# Altium footprint library project.PcbLib: 22 footprints (part 2 of 2)
Each footprint in its own frame and in the unit in brackets; x right, y up, seen from the top. Pads: shape width x height; smd on the part's side, far side on the other; paste and mask are expansions set on the pad; w line width, h text height; cw(c..) or ccw(c..) is an arc to the next point about the centre after c.
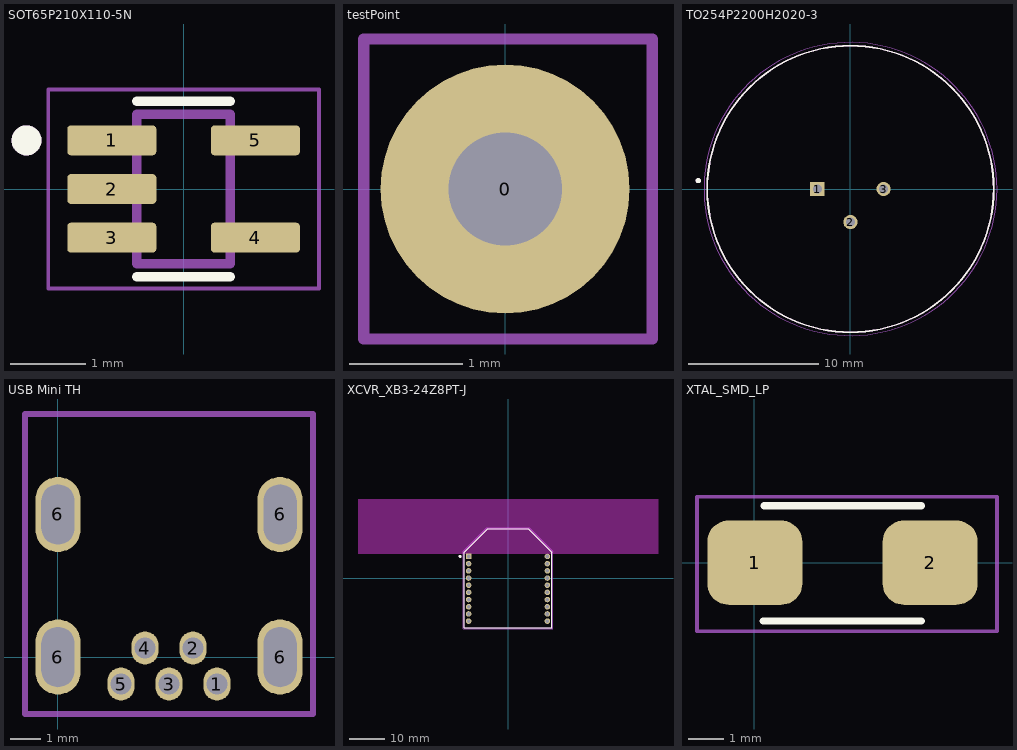
[diagram p1: the footprints below, top view; thin cyan lines are the x and y axes]

## SOT65P210X110-5N [mm]
pads (5):
  rrect25% 1.19x0.4 smd: 1(-0.96,0.65) 2(-0.96,0) 3(-0.96,-0.65) 4(0.96,-0.65) 5(0.96,0.65)
Top Overlay:
  circle w0.2: c-2.1,0.65 r0.1
  lines w0.127: -0.625,-1.17 0.625,-1.17 ; -0.625,1.17 0.625,1.17
Mechanical 13:
  circle w0.2: c-2.1,0.65 r0.1
  lines w0.127: -0.625,-1 -0.625,1 0.625,1 0.625,-1 -0.625,-1
Mechanical 15:
  lines w0.05: -1.81,-1.33 -1.81,1.33 1.81,1.33 1.81,-1.33 -1.81,-1.33

## testPoint [mm]
pads (1):
  round 2.2 hole 1: 0(0,0)
Mechanical 13:
  lines w0.1: -1.25,-1.325 -1.25,1.325 1.3,1.325 1.3,-1.325 -1.25,-1.325
  text ".Designator" at -1.075,-0.525 h0.4
3D body "User Library-TEST POINT.STEP": height 4.36, standoff -2.57, extent -1.27,-1.315 1.27,1.318

## TO254P2200H2020-3 [mm]
pads (3):
  rect 1.1x1.1 hole 0.7: 1(-2.54,0)
  round 1.1 hole 0.7: 2(0,-2.54) 3(2.54,0)
Top Overlay:
  circle w0.127: c0,0 r11
  circle w0.2: c-11.684,0.643 r0.1
Mechanical 13:
  circle w0.127: c0,0 r11
  circle w0.2: c-11.684,0.643 r0.1
Mechanical 15:
  circle w0.05: c0,0 r11.25

## USB Mini TH [mm]
pads (9):
  oval 0.9x1.1 hole 0.7: 1(5.3,-0.9) 2(4.5,0.3) 3(3.7,-0.9) 4(2.9,0.3) 5(2.1,-0.9)
  oval 1.5x2.5 hole 1.1 slot 2 at 90 deg: 6(0,0) 6(0,4.75) 6(7.4,0) 6(7.4,4.75)
Mechanical 13:
  lines w0.2: -1.1,-1.9 -1.1,8.1 -0.6,8.1 8.5,8.1 8.5,-1.9 -1.1,-1.9
  text ".Designator" at 1.35,6.225 h1
3D body "TH.STEP": height 3.95, standoff -2.55, extent -0.375,-1.025 7.775,7.8

## XCVR_XB3-24Z8PT-J [mm]
pads (20):
  rect 1.53x1.53 hole 1.02: 1(-10.998,6.096)
  round 1.53 hole 1.02: 2(-10.998,4.089) 3(-10.998,2.083) 4(-10.998,0.076) 5(-10.998,-1.93) 6(-10.998,-3.937) 7(-10.998,-5.944) 8(-10.998,-7.95) 9(-10.998,-9.957) 10(-10.998,-11.963) 11(10.998,-11.963) 12(10.998,-9.957) 13(10.998,-7.95) 14(10.998,-5.944) 15(10.998,-3.937) 16(10.998,-1.93) 17(10.998,0.076) 18(10.998,2.083) 19(10.998,4.089) 20(10.998,6.096)
Top Overlay:
  circle w0.4: c-13.4,6.1 r0.2
  lines w0.127: -12.192,-13.818 12.192,-13.818 12.192,7.29 5.664,13.818 -5.664,13.818 -12.192,7.29 -12.192,-13.818
Keep-Out Layer:
  region: 41.9,6.86 -41.9,6.86 -41.9,22.06 41.9,22.06
  region: 41.9,6.86 -41.9,6.86 -41.9,22.06 41.9,22.06
  region: 41.9,6.86 -41.9,6.86 -41.9,22.06 41.9,22.06
Mechanical 13:
  circle w0.4: c-13.4,6.1 r0.2
  lines w0.127: -12.192,-13.818 -12.192,7.29 -5.664,13.818 5.664,13.818 12.192,7.29 12.192,-13.818 -12.192,-13.818
Mechanical 15:
  lines w0.05: -12.442,-14.068 -12.442,7.544 -5.918,14.068 5.918,14.068 12.442,7.544 12.442,-14.068 -12.442,-14.068

## XTAL_SMD_LP [mm]
pads (2):
  rrect50% 2.7x2.4 smd: 1(0.02,0) 2(5,0)
Top Overlay:
  lines w0.2: 0.255,-1.657 4.755,-1.657 ; 0.28,1.617 4.755,1.617
Mechanical 13:
  lines w0.1: -1.625,-1.95 -1.625,1.875 6.9,1.875 6.9,-1.95 -1.625,-1.95
  text ".Designator" at -1.175,-0.675 h1
3D body "User Library-445-CRYTAL-SMD.STEP": height 1.35, standoff 0, extent 0.02,-1.6 5.02,1.6